# EAGLE library part NRF24 (library QFN32)
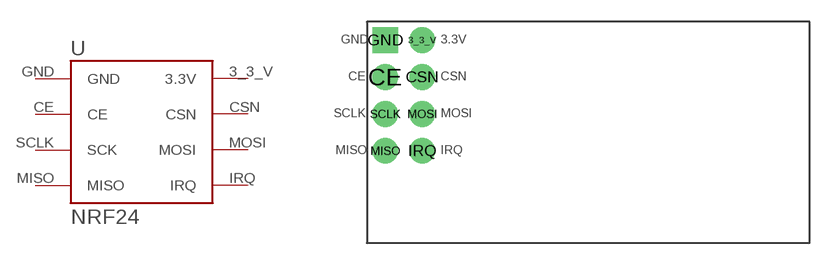
[diagram p4: symbol with the pads of NRF24; footprint NRF24]

Designator prefix -

## NRF24  [NRF24]
3_3_V  3.3V
CE  CE
CSN  CSN
GND  GND
IRQ  IRQ
MISO  MISO
MOSI  MOSI
SCLK  SCK

## Footprint NRF24 (pad centres in mm)
drill 0.9 pad 1.778: 3_3_V 3.81,13.97; CE 1.27,11.43; CSN 3.81,11.43; IRQ 3.81,6.35; MISO 1.27,6.35; MOSI 3.81,8.89; SCLK 1.27,8.89
drill 0.9 pad 1.778 square: GND 1.27,13.97